# Altium schematic symbol library Antennas.SchLib: 2 symbols
Pins are listed as number, name and electrical type; pins without a type are passive.

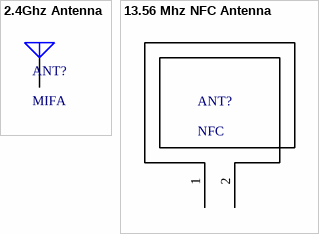
[diagram p0: symbols 2.4Ghz Antenna to 13.56 Mhz NFC Antenna]

## 2.4Ghz Antenna
designator ANT?, comment MIFA
2.4 Ghz MIFA Antenna
footprint 2.4G MIFA (2.4G MIFA Trace Antenna)
footprint 2.4G MIFA - bare (2.4G MIFA Trace Antenna)
pins: 1 A, 2 GND hidden to GND

## 13.56 Mhz NFC Antenna
designator ANT?, comment NFC
13.56 Mhz NFC Antenna
footprint NFC_10CM_22CM
pins: 1, 2